# EAGLE library part SBRIO_AUX (library formula electric)
An output for a lot of the extra pins on the sbRIO.
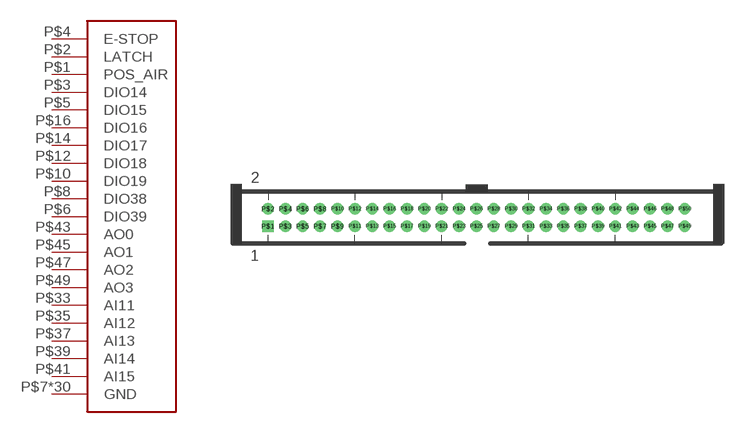
[diagram p5: symbol with the pads of SBRIO_J502_J503; footprint SBRIO_J502_J503]

Designator prefix -

## SBRIO_AUX  [SBRIO_J502_J503]
P$1  POS_AIR
P$2  LATCH
P$3  DIO14
P$4  E-STOP
P$5  DIO15
P$6  DIO39
P$7  GND
P$8  DIO38
P$9  GND
P$10  DIO19
P$11  GND
P$12  DIO18
P$13  GND
P$14  DIO17
P$15  GND
P$16  DIO16
P$17  GND
P$18  GND
P$19  GND
P$20  GND
P$21  GND
P$22  GND
P$23  GND
P$24  GND
P$25  GND
P$26  GND
P$27  GND
P$28  GND
P$29  GND
P$30  GND
P$31  GND
P$32  GND
P$33  AI11
P$34  GND
P$35  AI12
P$36  GND
P$37  AI13
P$38  GND
P$39  AI14
P$40  GND
P$41  AI15
P$42  GND
P$43  AO0
P$44  GND
P$45  AO1
P$46  GND
P$47  AO2
P$48  GND
P$49  AO3
P$50  GND

## Footprint SBRIO_J502_J503 (pad centres in mm)
50pin, 2.00mm spacing, Digikey: 952-2346-ND
drill 0.8 square: P$1 0,0
drill 0.8: P$2 0,2; P$3 2,0; P$4 2,2; P$5 4,0; P$6 4,2; P$7 6,0; P$8 6,2; P$9 8,0; P$10 8,2; P$11 10,0; P$12 10,2; P$13 12,0; P$14 12,2; P$15 14,0; P$16 14,2; P$17 16,0; P$18 16,2; P$19 18,0; P$20 18,2; P$21 20,0; P$22 20,2; P$23 22,0; P$24 22,2; P$25 24,0; P$26 24,2; P$27 26,0; P$28 26,2; P$29 28,0; P$30 28,2; P$31 30,0; P$32 30,2; P$33 32,0; P$34 32,2; P$35 34,0; P$36 34,2; P$37 36,0; P$38 36,2; P$39 38,0; P$40 38,2; P$41 40,0; P$42 40,2; P$43 42,0; P$44 42,2; P$45 44,0; P$46 44,2; P$47 46,0; P$48 46,2; P$49 48,0; P$50 48,2